# EAGLE library part MEMORY.M (library Bergsonne Tiles)
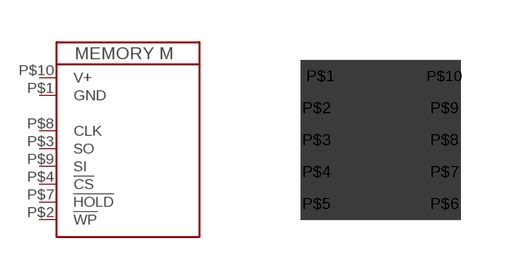
[diagram p0: symbol with the pads of T44-10; footprint T44-10]

Designator prefix -

## MEMORY.M  [T44-10]
P$1  GND
P$2  !WP!
P$3  SO
P$4  !CS!
P$7  !HOLD!
P$8  CLK
P$9  SI
P$10  V+

## Footprint T44-10 (pad centres in mm)
smd 1 x 0.4: P$1 -1.5,1.6
smd 0.8 x 0.4: P$2 -1.6,0.8; P$3 -1.6,0; P$4 -1.6,-0.8; P$5 -1.6,-1.6; P$6 1.6,-1.6; P$7 1.6,-0.8; P$8 1.6,0; P$9 1.6,0.8; P$10 1.6,1.6